# EAGLE library part TDA7052SMD (library Philips-semiconductors2)
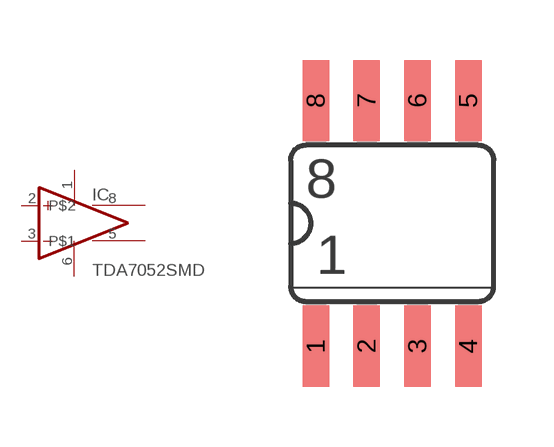
[diagram p3: symbol with the pads of SOT505-1; footprint SOT505-1]

Designator prefix IC

## TDA7052SMD  [SOT505-1]
1  V+  pwr
2  +IN  in
3  -IN  in
5  P$1  out
6  V-  pwr
8  P$2  out

## Footprint SOT505-1 (pad centres in mm)
smd 0.66 x 2.032: 1 -1.905,-3.073; 2 -0.635,-3.073; 3 0.635,-3.073; 4 1.905,-3.073; 5 1.905,3.073; 6 0.635,3.073; 7 -0.635,3.073; 8 -1.905,3.073